# Altium footprint library RKJXV122400R.PcbLib: 1 footprints
Each footprint in its own frame and in the unit in brackets; x right, y up, seen from the top. Pads: shape width x height; smd on the part's side, far side on the other; paste and mask are expansions set on the pad; w line width, h text height; cw(c..) or ccw(c..) is an arc to the next point about the centre after c.
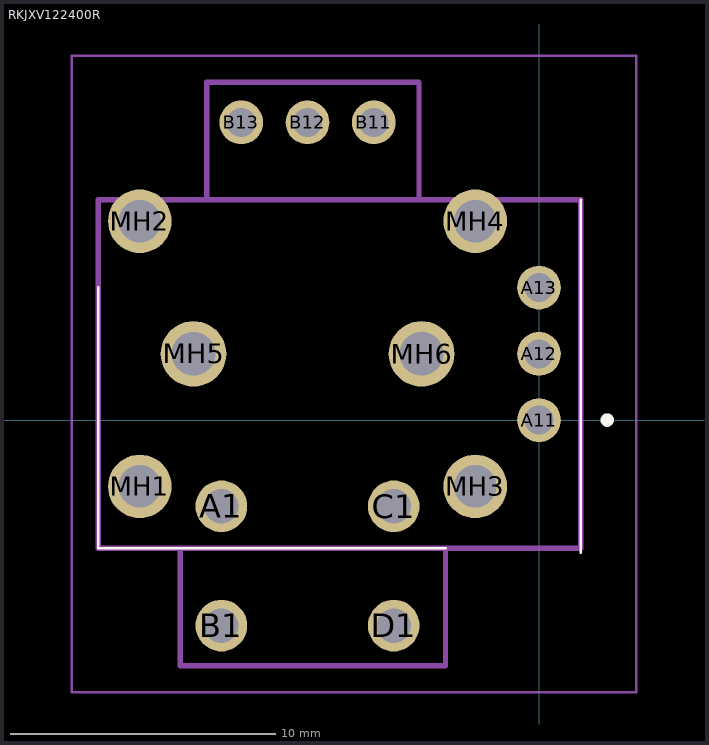
[diagram p0: the footprint, top view; thin cyan lines are the x and y axes]

## RKJXV122400R [mm]
pads (16):
  round 1.95 hole 1.3: A1(-11.98,-3.25) B1(-11.98,-7.75) C1(-5.48,-3.25) D1(-5.48,-7.75)
  round 1.65 hole 1.1: A11(0,0) A12(0,2.5) A13(0,5) B11(-6.23,11.23) B12(-8.73,11.23) B13(-11.23,11.23)
  round 2.4 hole 1.6: MH1(-15.055,-2.5) MH2(-15.055,7.5) MH3(-2.405,-2.5) MH4(-2.405,7.5)
  round 2.475 hole 1.65: MH5(-13.03,2.5) MH6(-4.43,2.5)
Top Overlay:
  lines w0.1: -16.627,5 -16.627,-4.835 -3.527,-4.835 ; 1.572,-5 1.572,8.315
  lines w0.3: 2.473,0 2.473,0 ; 2.472,0 ccw(c2.572,0) 2.672,0 ; 2.472,0 cw(c2.572,0) 2.672,0 ; 2.672,0 2.672,0
Mechanical 15:
  lines w0.2: -13.527,-4.835 -13.527,-9.26 -3.527,-9.26 -3.527,-4.835 ; -12.527,8.315 -12.527,12.74 -4.527,12.74 -4.527,8.315 ; -16.627,-4.835 1.572,-4.835 1.572,8.315 -16.627,8.315 -16.627,-4.835
Mechanical 20:
  lines w0.1: -17.627,-10.26 3.672,-10.26 3.672,13.74 -17.627,13.74 -17.627,-10.26